# Altium schematic symbol library Antenna.SchLib: 1 symbol
Pins are listed as number, name and electrical type; pins without a type are passive.

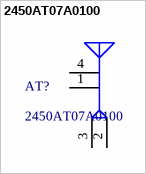
[diagram p0: symbol 2450AT07A0100]

## 2450AT07A0100
designator AT?
Chip Antenna
footprint 2450AT07A0100 (Ultra-Miniature 2.4GHz Chip antenna 0.37mm max Thickness)
pins: 1, 2, 3, 4